# Altium footprint library MOLEX_2171790001.PcbLib: 1 footprints
Each footprint in its own frame and in the unit in brackets; x right, y up, seen from the top. Pads: shape width x height; smd on the part's side, far side on the other; paste and mask are expansions set on the pad; w line width, h text height; cw(c..) or ccw(c..) is an arc to the next point about the centre after c.
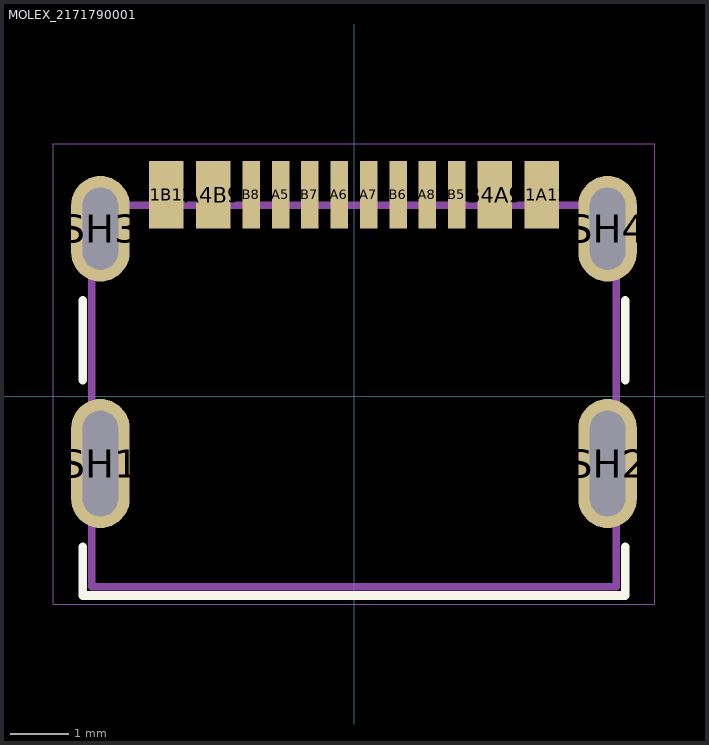
[diagram p0: the footprint, top view; thin cyan lines are the x and y axes]

## MOLEX_2171790001 [mm]
height 3.16
pads (16):
  rect 0.59x1.15 smd mask+0.064: A1B12(-3.2,3.425) A4B9(-2.4,3.425) B1A12(3.2,3.425) B4A9(2.4,3.425)
  rect 0.298x1.15 smd mask+0.064: A5(-1.25,3.425) A6(-0.25,3.425) A7(0.25,3.425) A8(1.25,3.425) B5(1.75,3.425) B6(0.75,3.425) B7(-0.75,3.425) B8(-1.75,3.425)
  oval 1x2.2 hole 0.6 slot 1.8 at 90 deg mask+0.064: SH1(-4.32,-1.15) SH2(4.32,-1.15)
  oval 1x1.8 hole 0.6 slot 1.4 at 90 deg mask+0.064: SH3(-4.32,2.85) SH4(4.32,2.85)
Top Overlay:
  lines w0.15: -4.62,-2.57 -4.62,-3.4 4.62,-3.4 4.62,-2.57 ; -4.62,0.27 -4.62,1.63 ; 4.62,0.27 4.62,1.63
Assembly Top:
  lines w0.13: -4.47,-3.25 -4.47,3.25 4.47,3.25 4.47,-3.25 -4.47,-3.25
  text "PTH Slot 0.6 +/-0.05 X 1.8 +/-0.05" at -5.736,8.998 h0.5
  text "PTH Slot 0.6 +/-0.05 X 1.4 +/-0.05" at -5.686,7.878 h0.5
Courtyard Top:
  lines w0.01: -5.12,-3.55 5.12,-3.55 5.12,4.3 -5.12,4.3 -5.12,-3.55